# Altium footprint library 102711.PcbLib: 2 footprints
Each footprint in its own frame and in the unit in brackets; x right, y up, seen from the top. Pads: shape width x height; smd on the part's side, far side on the other; paste and mask are expansions set on the pad; w line width, h text height; cw(c..) or ccw(c..) is an arc to the next point about the centre after c.
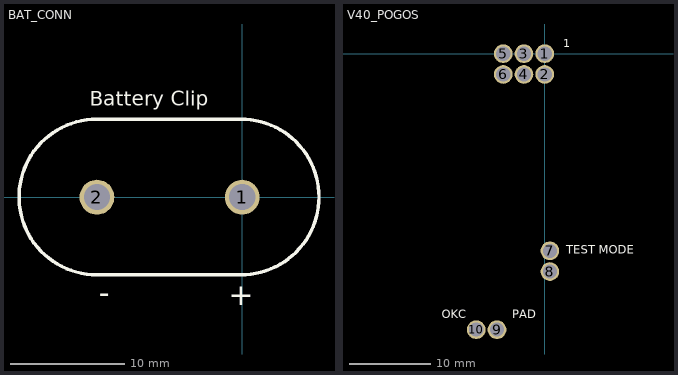
[diagram p0: the footprints below, top view; thin cyan lines are the x and y axes]

## BAT_CONN [mil]
pads (2):
  round 120 hole 90: 1(0,0) 2(-500,0)
Top Overlay:
  lines w12: -500,-267 cw(c-500.71,0.5) -500,268 -5,268 cw(c-3.25,0.5) -5,-267 -500,-267
  text "+" at 39,-309 h75
  text "-" at -456,-309 h75
  text "Battery Clip" at -525.5,315 h50
Bottom Overlay:
  text "-" at -456,-309 h75
  text "+" at 39,-309 h75

## V40_POGOS [mil]
pads (10):
  round 90 hole 68: 1(0,0) 2(0,-100) 3(-100,0) 4(-100,-100) 5(-200,0) 6(-200,-100) 7(25,-950) 8(25,-1050) 9(-230,-1330) 10(-330,-1330)
Top Overlay:
  text "OKC" at -497,-1274.5 h40
  text "PAD" at -157,-1274.5 h40
  text "1" at 90,31.5 h39.37
  text "TEST MODE" at 103,-964.5 h40
Bottom Overlay:
  text "PAD" at -67,-1274.5 h40
  text "OKC" at -407,-1274.5 h40
  text "ICSP" at -37,115.5 h40
  text "TEST MODE" at 395,-965 h35
  text "1" at 103,35.5 h39.37